# Altium footprint library 3W_1.75K.PcbLib: 1 footprints
Each footprint in its own frame and in the unit in brackets; x right, y up, seen from the top. Pads: shape width x height; smd on the part's side, far side on the other; paste and mask are expansions set on the pad; w line width, h text height; cw(c..) or ccw(c..) is an arc to the next point about the centre after c.
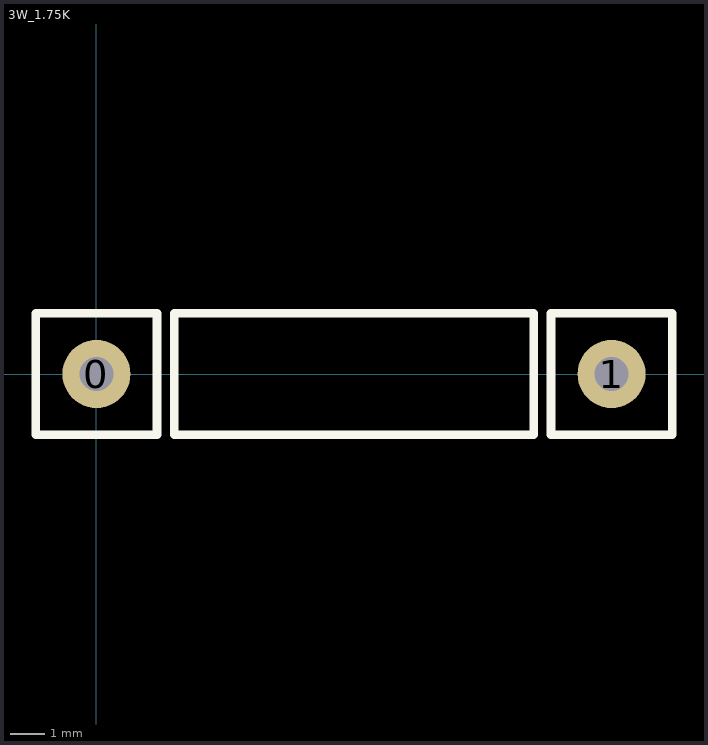
[diagram p0: the footprint, top view; thin cyan lines are the x and y axes]

## 3W_1.75K [mm]
pads (2):
  round 2 hole 1: 0(0,0) 1(15.113,0)
Top Overlay:
  lines w0.254: -1.778,-1.778 1.778,-1.778 1.778,1.778 -1.778,1.778 -1.778,-1.778 ; 2.286,-1.778 2.286,1.778 12.827,1.778 12.827,-1.778 2.286,-1.778 ; 13.335,-1.778 13.335,1.778 16.891,1.778 16.891,-1.778 13.335,-1.778